# Altium schematic symbol library dungvh03-CERN_Logic.SchLib: 486 symbols (part 14 of 54)
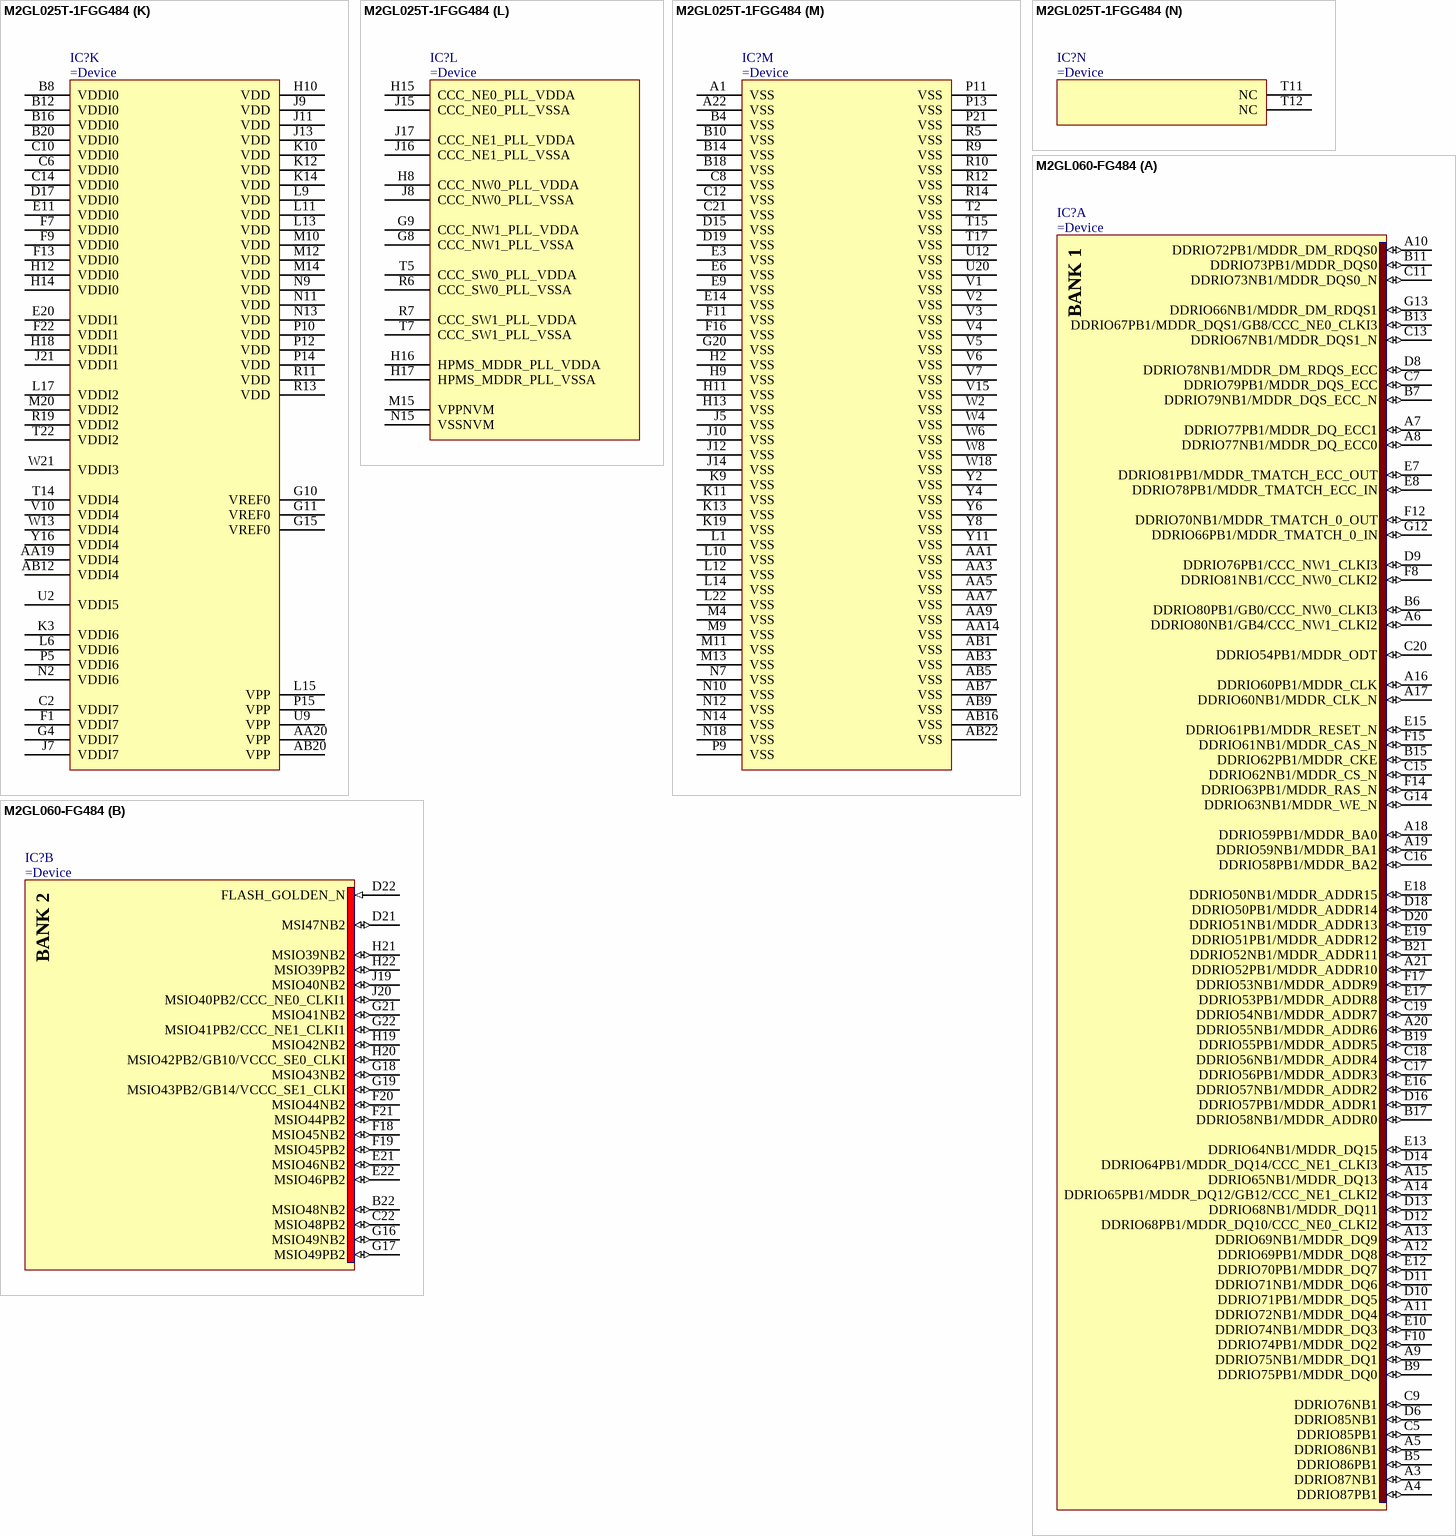
[diagram p274: symbols M2GL025T-1FGG484 to M2GL060-FG484]

## M2GL025T-1FGG484
designator IC?
IGLOO2 FPGA, 27696 Cells, 267 User I/Os,  6 PLLs, 1104K RAM, 1 PCIe, 484-Pin FBGA, Commercial Grade
part A pins: A3 DDRIO79NB0 (io), A4 DDRIO79PB0 (io), A5 DDRIO78NB0 (io), A6 DDRIO65NB0/GB4/CCC_NW1_CLKI2 (io), A7 DDRIO62PB0/MDDR_DQ_ECC1 (io), A8 DDRIO62NB0/MDDR_DQ_ECC0 (io), A9 DDRIO60NB0/MDDR_DQ1 (io), A10 DDRIO57PB0/MDDR_DM_RDQS0 (io), A11 DDRIO57NB0/MDDR_DQ4 (io), A12 DDRIO54PB0/MDDR_DQ8 (io), A13 DDRIO54NB0/MDDR_DQ9 (io), A14 DDRIO50PB0/GB12/CCC_NE1_CLKI2/MDDR_DQ12 (io), A15 DDRIO50NB0/MDDR_DQ13 (io), A16 DDRIO45PB0/MDDR_CLK (io), A17 DDRIO45NB0/MDDR_CLK_N (io), A18 DDRIO44PB0/MDDR_BA0 (io), A19 DDRIO44NB0/MDDR_BA1 (io), A20 DDRIO40NB0/MDDR_ADDR6 (io), A21 DDRIO37PB0/MDDR_ADDR10 (io), B5 DDRIO78PB0 (io), B6 DDRIO65PB0/GB0/CCC_NW0_CLKI3 (io), B7 DDRIO64NB0/MDDR_DQS_ECC_N (io), B9 DDRIO60PB0/MDDR_DQ0 (io), B11 DDRIO58PB0/MDDR_DQS0 (io), B13 DDRIO52PB0/GB8/CCC_NE0_CLKI3/MDDR_DQS1 (io), B15 DDRIO47PB0/MDDR_CKE (io), B17 DDRIO43NB0/MDDR_ADDR0 (io), B19 DDRIO40PB0/MDDR_ADDR5 (io), B21 DDRIO37NB0/MDDR_ADDR11 (io), C5 DDRIO77PB0 (io), C7 DDRIO64PB0/MDDR_DQS_ECC (io), C9 DDRIO61NB0 (io), C11 DDRIO58NB0/MDDR_DQS0_N (io), C13 DDRIO52NB0/MDDR_DQS1_N (io), C15 DDRIO47NB0/MDDR_CS_N (io), C16 DDRIO43PB0/MDDR_BA2 (io), C17 DDRIO41PB0/MDDR_ADDR3 (io), C18 DDRIO41NB0/MDDR_ADDR4 (io), C19 DDRIO39NB0/MDDR_ADDR7 (io), C20 DDRIO39PB0/MDDR_ODT (io), D6 DDRIO77NB0 (io), D8 DDRIO63NB0/MDDR_DM_RDQS_ECC (io), D9 DDRIO61PB0/CCC_NW1_CLKI3 (io), D10 DDRIO56PB0/MDDR_DQ5 (io), D11 DDRIO56NB0/MDDR_DQ6 (io), D12 DDRIO53PB0/CCC_NE0_CLKI2/MDDR_DQ10 (io), D13 DDRIO53NB0/MDDR_DQ11 (io), D14 DDRIO49PB0/CCC_NE1_CLKI3/MDDR_DQ14 (io), D16 DDRIO42PB0/MDDR_ADDR1 (io), D18 DDRIO35PB0/MDDR_ADDR14 (io), D20 DDRIO36NB0/MDDR_ADDR13 (io), E7 DDRIO66PB0/MDDR_TMATCH_ECC_OUT (io), E8 DDRIO63PB0/MDDR_TMATCH_ECC_IN (io), E10 DDRIO59NB0/MDDR_DQ3 (io), E12 DDRIO55PB0/MDDR_DQ7 (io), E13 DDRIO49NB0/MDDR_DQ15 (io), E15 DDRIO46PB0/MDDR_RESET_N (io), E16 DDRIO42NB0/MDDR_ADDR2 (io), E17 DDRIO38PB0/MDDR_ADDR8 (io), E18 DDRIO35NB0/MDDR_ADDR15 (io), E19 DDRIO36PB0/MDDR_ADDR12 (io), F8 DDRIO66NB0/CCC_NW0_CLKI2 (io), F10 DDRIO59PB0/MDDR_DQ2 (io), F12 DDRIO55NB0/MDDR_TMATCH_0_OUT (io), F14 DDRIO48PB0/MDDR_RAS_N (io), F15 DDRIO46NB0/MDDR_CAS_N (io), F17 DDRIO38NB0/MDDR_ADDR9 (io), G12 DDRIO51PB0/MDDR_TMATCH_0_IN (io), G13 DDRIO51NB0/MDDR_DM_RDQS1 (io), G14 DDRIO48NB0/MDDR_WE_N (io)
part B pins: B22 MSIO33NB1 (io), C22 MSIO33PB1 (io), D21 MSI32NB1 (io), D22 FLASH_GOLDEN_N (in), E21 MSIO31NB1 (io), E22 MSIO31PB1 (io), F18 MSIO30NB1 (io), F19 MSIO30PB1 (io), F20 MSIO29NB1 (io), F21 MSIO29PB1 (io), G16 MSIO34NB1 (io), G17 MSIO34PB1 (io), G18 MSIO28NB1 (io), G19 MSIO28PB1/GB14/VCCC_SE1_CLKI (io), G21 MSIO26NB1 (io), G22 MSIO26PB1/CCC_NE1_CLKI1 (io), H19 MSIO27NB1 (io), H20 MSIO27PB1/GB10/VCCC_SE0_CLKI (io), H21 MSIO24NB1 (io), H22 MSIO24PB1 (io), J19 MSIO25NB1 (io), J20 MSIO25PB1/CCC_NE0_CLKI1 (io)
part C pins: J18 MSIO23NB2 (io), J22 MSIO20NB2/GB13/VCCC_SE1_CLKI (io), K15 MSIO21NB2 (io), K16 MSIO22NB2 (io), K17 MSIO22PB2 (io), K18 MSIO23PB2 (io), K20 MSIO19NB2 (io), K21 MSIO19PB2 (io), K22 MSIO20PB2/GB9/VCCC_SE0_CLKI (io), L16 MSIO21PB2 (io), L18 MSIO18NB2 (io), L19 MSIO18PB2 (io), L20 MSIO17NB2 (io), L21 MSIO17PB2 (io), M16 MSIO14PB2 (io), M17 MSIO14NB2 (io), M18 MSIO15PB2 (io), M19 MSIO15NB2 (io), M21 MSIO16PB2 (io), M22 MSIO16NB2 (io), N16 MSIO8PB2 (io), N17 MSIO8NB2 (io), N19 MSIO12PB2/SPI_0_CLK (io), N20 MSIO12NB2/SPI_0_SDI (io), N21 MSIO13PB2/SPI_0_SDO (io), N22 MSIO13NB2/SPI_0_SS0 (io), P16 MSIO7NB2 (io), P17 MSIO6PB2 (io), P18 MSIO6NB2 (io), P22 MSIO11PB2/CCC_NE0_CLKI0 (io), R16 MSIO7PB2 (io), R17 MSIO1PB2 (io), R18 MSIO1NB2 (io), R22 MSIO11NB2/CCC_NE1_CLKI0 (io), T18 MSIO2PB2 (io), T19 MSIO2NB2 (io), T20 MSIO5PB2 (io), T21 MSIO5NB2 (io), U19 MSIO0PB2 (io), U21 MSIO4NB2 (io), U22 MSIO4PB2 (io), V19 MSIO0NB2 (io), V21 MSIO3NB2 (io), V22 MSIO3PB2 (io)
part D pins: AA10 MSIO122PB4 (io), AA11 MSIO124PB4 (io), AA12 MSIO127PB4 (io), AA13 MSIO130PB4/VCCC_SE0_CLKI (io), AA15 MSIO134NB4 (io), AA16 MSIO138PB4 (io), AA17 MSIO138NB4 (io), AA18 MSIO137NB4 (io), AB10 MSIO122NB4 (io), AB11 MSIO124NB4 (io), AB13 MSIO129PB4/CCC_SW1_CLKI3 (io), AB14 MSIO129NB4 (io), AB15 MSIO134PB4/VCCC_SE1_CLKI (io), AB17 MSIO137PB4 (io), AB18 MSIO142PB4 (io), AB19 MSIO142NB4 (io), T13 MSIO131NB4 (io), T16 MSIO143NB4 (io), U10 MSIO123PB4 (io), U11 MSIO123NB4 (io), U13 MSIO131PB4/GB11/VCCC_SE0_CLKI (io), U14 MSIO136PB4 (io), U15 MSIO136NB4 (io), U16 MSIO143PB4 (io), U17 MSIO144NB4 (io), U18 MSIO146NB4 (io), V11 MSIO125PB4/GB3/CCC_SW0_CLKI3 (io), V12 MSIO128NB4 (io), V13 MSIO132PB4 (io), V14 MSIO132NB4 (io), V16 MSIO139NB4 (io), V17 MSIO144PB4 (io), V18 MSIO146PB4 (io), W9 MSIO120PB4 (io), W10 MSIO121PB4/PROBE_A (io), W11 MSIO125NB4/GB7/CCC_SW1_CLKI2 (io), W12 MSIO128PB4 (io), W14 MSIO133NB4 (io), W15 MSIO135NB4 (io), W16 MSIO139PB4 (io), W17 MSIO140NB4 (io), W19 MSIO145NB4 (io), Y9 MSIO120NB4/CCC_SW0_CLKI2 (io), Y10 MSIO121NB4/PROBE_B (io), Y12 MSIO127NB4 (io), Y13 MSIO130NB4 (io), Y14 MSIO133PB4/GB15/VCCC_SE1_CLKI (io), Y15 MSIO135PB4 (io), Y17 MSIO140PB4 (io), Y18 MSIO141PB4 (io), Y19 MSIO141NB4 (io), Y20 MSIO145PB4 (io)
part E pins: K1 MSIOD103PB6/CCC_SW0_CLKI0 (io), K2 MSIOD103NB6 (io), K4 MSIOD100PB6/GB5/CCC_SW1_CLKI1 (io), K5 MSIOD100NB6 (io), K8 MSIOD101PB6/GB1/CCC_SW0_CLKI1 (io), L2 MSIOD104PB6 (io), L3 MSIOD104NB6 (io), L4 MSIOD105PB6 (io), L5 MSIOD105NB6 (io), L7 MSIOD102NB6 (io), L8 MSIOD101NB6 (io), M1 MSIOD110NB6 (io), M2 MSIOD108NB6 (io), M3 MSIOD108PB6 (io), M5 MSIOD106PB6 (io), M6 MSIOD106NB6 (io), M7 MSIOD102PB6/CCC_SW1_CLKI0 (io), M8 MSIOD113NB6 (io), N1 MSIOD110PB6 (io), N3 MSIOD109PB6 (io), N4 MSIOD109NB6 (io), N5 MSIOD107PB6 (io), N6 MSIOD107NB6 (io), N8 MSIOD113PB6 (io), P1 MSIOD112PB6 (io), P2 MSIOD112NB6 (io), P3 MSIOD111NB6 (io), P4 MSIOD111PB6 (io), P6 MSIOD114PB6 (io), P7 MSIOD114NB6 (io), R1 MSIOD115NB6 (io), R2 MSIOD115PB6 (io), R3 MSIOD116PB6 (io), R4 MSIOD116NB6 (io), T3 MSIOD117NB6 (io), T4 MSIOD117PB6 (io)
part F pins: A2 MSIO85NB7 (io), B1 MSIO87NB7 (io), B2 MSIO85PB7 (io), B3 MSIO81NB7 (io), C1 MSIO87PB7 (io), C3 MSIO81PB7 (io), C4 MSIO80PB7 (io), D1 MSIO88PB7 (io), D2 MSIO88NB7 (io), D3 MSIO84PB7 (io), D4 MSIO84NB7 (io), D5 MSIO80NB7 (io), E1 MSIO89PB7 (io), E2 MSIO89NB7 (io), E4 MSIO86PB7 (io), E5 MSIO86NB7 (io), F2 MSIO94NB7 (io), F3 MSIO90PB7 (io), F4 MSIO90NB7 (io), F5 MSIO83PB7 (io), F6 MSIO83NB7 (io), G1 MSIO96NB7 (io), G2 MSIO94PB7 (io), G3 MSIO95NB7 (io), G5 MSIO82PB7 (io), G6 MSIO82NB7 (io), G7 MSIO91NB7 (io), H1 MSIO96PB7/GB6/CCC_NW1_CLKI1 (io), H3 MSIO95PB7 (io), H4 MSIO93PB7 (io), H5 MSIO93NB7 (io), H6 MSIO92PB7 (io), H7 MSIO91PB7 (io), J1 MSIO98PB7/CCC_NW1_CLKI0 (io), J2 MSIO98NB7 (io), J3 MSIO97PB7/GB2/CCC_NW0_CLKI1 (io), J4 MSIO97NB7 (io), J6 MSIO92NB7 (io), K6 MSIO99PB7/CCC_NW0_CLKI0 (io), K7 MSIO99NB7 (io)
part G pins: AA2 SERDES_0_TXD0_N (in), AA4 SERDES_0_TXD1_N (in), AA6 SERDES_0_TXD2_N (in), AA8 SERDES_0_TXD3_N (in), AB2 SERDES_0_TXD0_P (in), AB4 SERDES_0_TXD1_P (in), AB6 SERDES_0_TXD2_P (in), AB8 SERDES_0_TXD3_P (in), P8 SERDES_0_VDD (power), R8 SERDES_0_L01_VDDAIO (power), T1 MSIOD118NB5/SERDES_0_REFCLK0_N (io), T6 SERDES_0_PLL_VSSA (power), T8 SERDES_0_PLL_VDDA (power), T9 SERDES_0_VDD (power), T10 SERDES_0_L23_VDDAIO (power), U1 MSIOD118PB5/SERDES_0_REFCLK0_P (io), U3 MSIOD119PB5/SERDES_0_REFCLK1_P (io), U4 MSIOD119NB5/SERDES_0_REFCLK1_N (io), U5 SERDES_0_L01_REXT (power), U6 SERDES_0_L01_REFRET (power), U7 SERDES_0_L01_VDDAPLL (power), U8 SERDES_0_L23_VDDAPLL (power), V8 SERDES_0_L23_REXT (power), V9 SERDES_0_L23_REFRET (power), W1 SERDES_0_RXD0_P (in), W3 SERDES_0_RXD1_P (in), W5 SERDES_0_RXD2_P (in), W7 SERDES_0_RXD3_P (in), Y1 SERDES_0_RXD0_N (in), Y3 SERDES_0_RXD1_N (in), Y5 SERDES_0_RXD2_N (in), Y7 SERDES_0_RXD3_N (in)
part H pins: AA21 XTLOSC_MAIN_EXTAL (in), AB21 XTLOSC_MAIN_XTAL (in), D7 MDDR_IMP_CALIB (in), R15 DEVRST_N (in)
part I pins: AA22 JTAGSEL (in), V20 JTAG_TMS (in), W20 JTAG_TCK (in), W22 JTAG_TDI (in), Y21 JTAG_TDO (out), Y22 JTAG_TRSTB (in)
part J pins: P19 SC_SPI_SDO (out), P20 SC_SPI_SS (out), R20 SC_SPI_CLK (out), R21 SC_SPI_SDI (in)
part K pins: AA19 VDDI4 (power), AA20 VPP (power), AB12 VDDI4 (power), AB20 VPP (power), B8 VDDI0 (power), B12 VDDI0 (power), B16 VDDI0 (power), B20 VDDI0 (power), C2 VDDI7 (power), C6 VDDI0 (power), C10 VDDI0 (power), C14 VDDI0 (power), D17 VDDI0 (power), E11 VDDI0 (power), E20 VDDI1 (power), F1 VDDI7 (power), F7 VDDI0 (power), F9 VDDI0 (power), F13 VDDI0 (power), F22 VDDI1 (power), G4 VDDI7 (power), G10 VREF0 (power), G11 VREF0 (power), G15 VREF0 (power), H10 VDD (power), H12 VDDI0 (power), H14 VDDI0 (power), H18 VDDI1 (power), J7 VDDI7 (power), J9 VDD (power), J11 VDD (power), J13 VDD (power), J21 VDDI1 (power), K3 VDDI6 (power), K10 VDD (power), K12 VDD (power), K14 VDD (power), L6 VDDI6 (power), L9 VDD (power), L11 VDD (power), L13 VDD (power), L15 VPP (power), L17 VDDI2 (power), M10 VDD (power), M12 VDD (power), M14 VDD (power), M20 VDDI2 (power), N2 VDDI6 (power), N9 VDD (power), N11 VDD (power), N13 VDD (power), P5 VDDI6 (power), P10 VDD (power), P12 VDD (power), P14 VDD (power), P15 VPP (power), R11 VDD (power), R13 VDD (power), R19 VDDI2 (power), T14 VDDI4 (power), T22 VDDI2 (power), U2 VDDI5 (power), U9 VPP (power), V10 VDDI4 (power), W13 VDDI4 (power), W21 VDDI3 (power), Y16 VDDI4 (power)
part L pins: G8 CCC_NW1_PLL_VSSA (power), G9 CCC_NW1_PLL_VDDA (power), H8 CCC_NW0_PLL_VDDA (power), H15 CCC_NE0_PLL_VDDA (power), H16 HPMS_MDDR_PLL_VDDA (power), H17 HPMS_MDDR_PLL_VSSA (power), J8 CCC_NW0_PLL_VSSA (power), J15 CCC_NE0_PLL_VSSA (power), J16 CCC_NE1_PLL_VSSA (power), J17 CCC_NE1_PLL_VDDA (power), M15 VPPNVM (power), N15 VSSNVM (power), R6 CCC_SW0_PLL_VSSA (power), R7 CCC_SW1_PLL_VDDA (power), T5 CCC_SW0_PLL_VDDA (power), T7 CCC_SW1_PLL_VSSA (power)
part M pins: A1 VSS (power), A22 VSS (power), AA1 VSS (power), AA3 VSS (power), AA5 VSS (power), AA7 VSS (power), AA9 VSS (power), AA14 VSS (power), AB1 VSS (power), AB3 VSS (power), AB5 VSS (power), AB7 VSS (power), AB9 VSS (power), AB16 VSS (power), AB22 VSS (power), B4 VSS (power), B10 VSS (power), B14 VSS (power), B18 VSS (power), C8 VSS (power), C12 VSS (power), C21 VSS (power), D15 VSS (power), D19 VSS (power), E3 VSS (power), E6 VSS (power), E9 VSS (power), E14 VSS (power), F11 VSS (power), F16 VSS (power), G20 VSS (power), H2 VSS (power), H9 VSS (power), H11 VSS (power), H13 VSS (power), J5 VSS (power), J10 VSS (power), J12 VSS (power), J14 VSS (power), K9 VSS (power), K11 VSS (power), K13 VSS (power), K19 VSS (power), L1 VSS (power), L10 VSS (power), L12 VSS (power), L14 VSS (power), L22 VSS (power), M4 VSS (power), M9 VSS (power), M11 VSS (power), M13 VSS (power), N7 VSS (power), N10 VSS (power), N12 VSS (power), N14 VSS (power), N18 VSS (power), P9 VSS (power), P11 VSS (power), P13 VSS (power), P21 VSS (power), R5 VSS (power), R9 VSS (power), R10 VSS (power), R12 VSS (power), R14 VSS (power), T2 VSS (power), T15 VSS (power), T17 VSS (power), U12 VSS (power), U20 VSS (power), V1 VSS (power), V2 VSS (power), V3 VSS (power), V4 VSS (power), V5 VSS (power), V6 VSS (power), V7 VSS (power), V15 VSS (power), W2 VSS (power), W4 VSS (power), W6 VSS (power), W8 VSS (power), W18 VSS (power), Y2 VSS (power), Y4 VSS (power), Y6 VSS (power), Y8 VSS (power), Y11 VSS (power)
part N pins: T11 NC, T12 NC
part A text: BANK 0
part B text: BANK 1
part C text: BANK 2
part D text: BANK 4
part E text: BANK 6
part F text: BANK 7

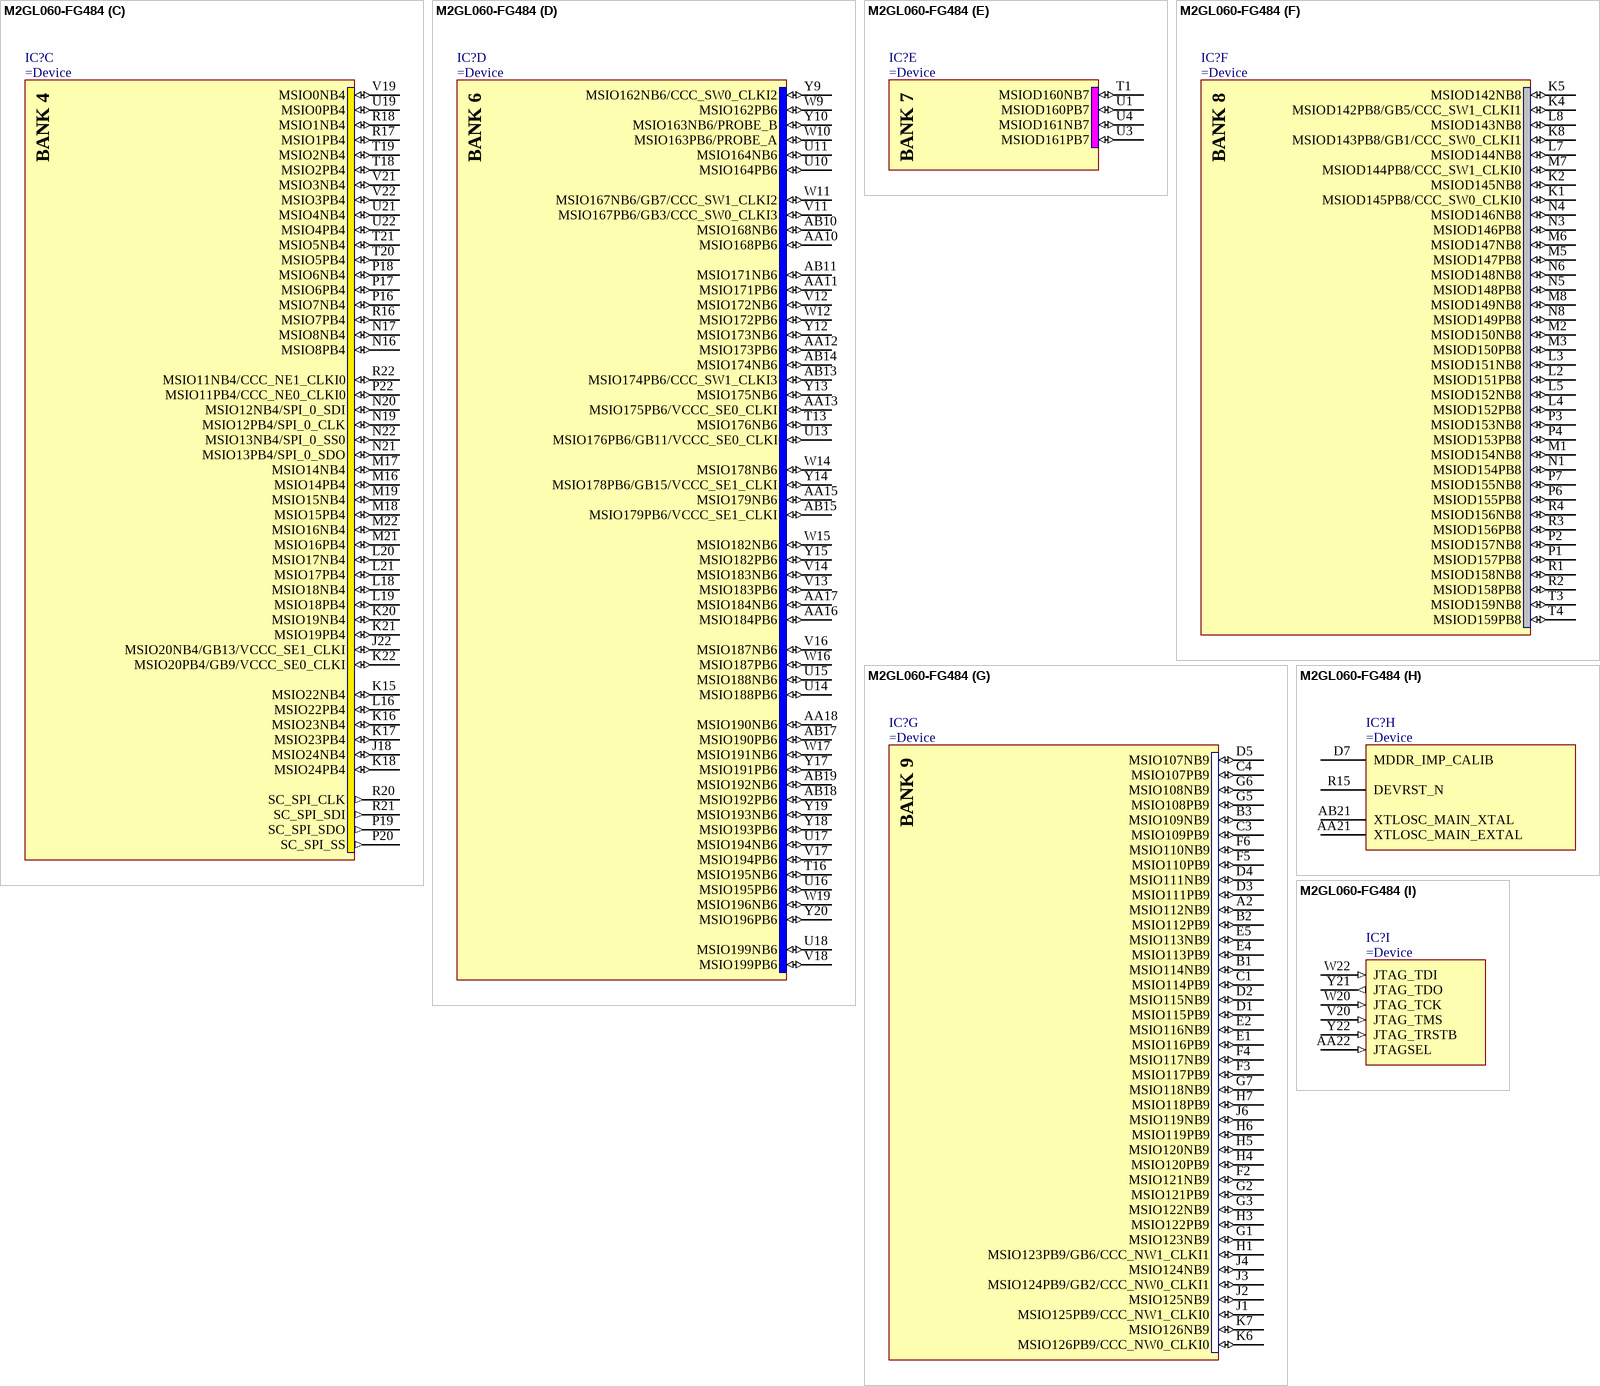
[diagram p82: symbol M2GL060-FG484]

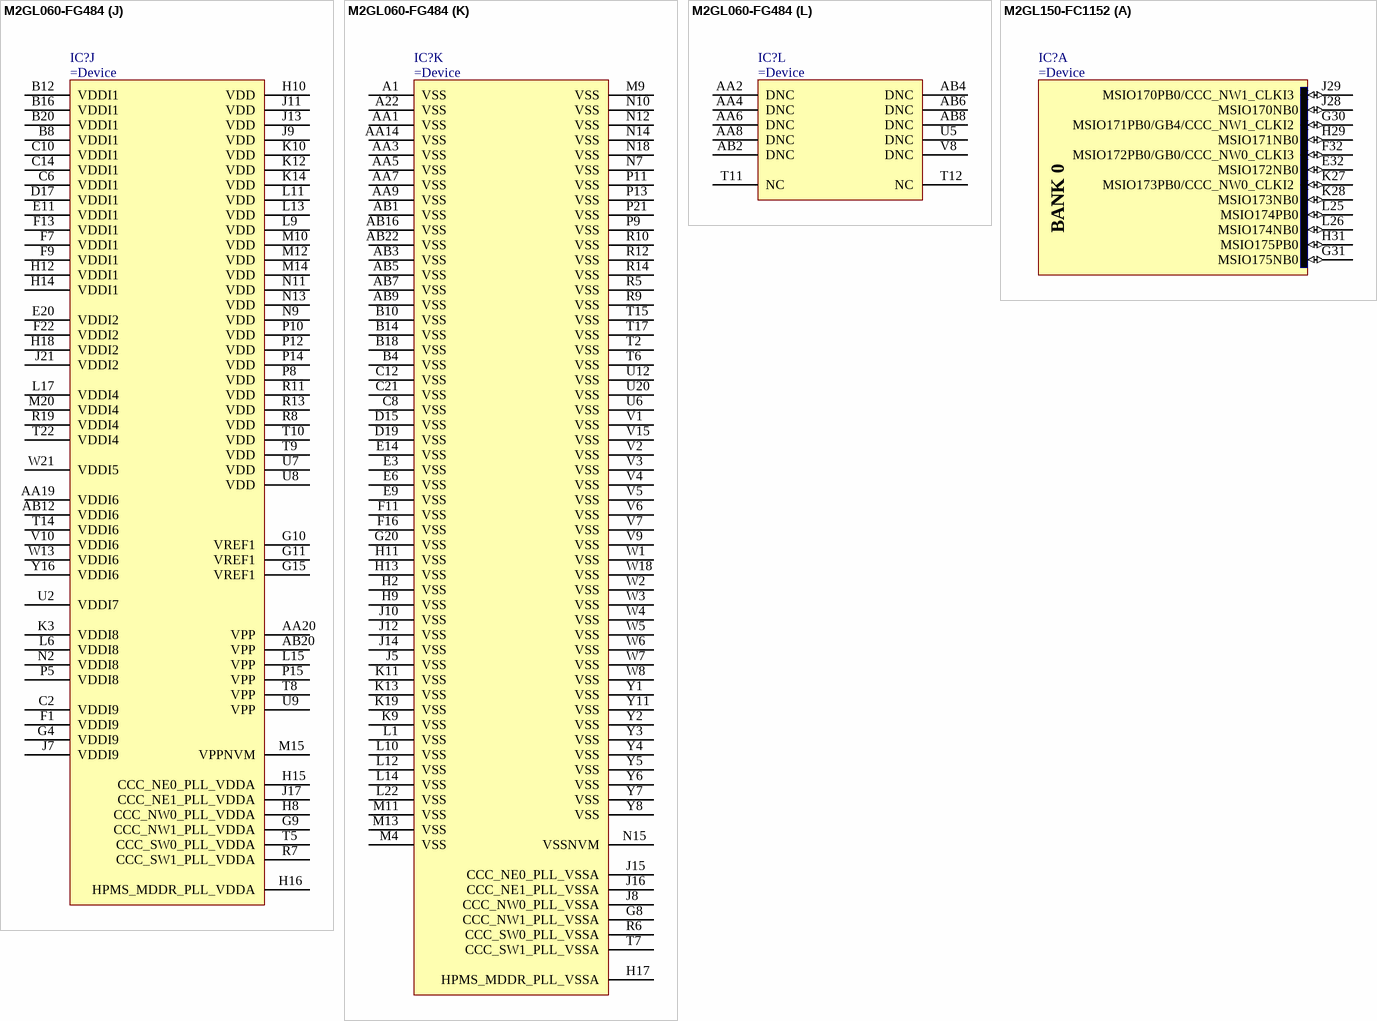
[diagram p83: symbols M2GL060-FG484 to M2GL150-FC1152]

## M2GL060-FG484
designator IC?
IGLOO2 FPGA, 27696 Cells, 267 User I/Os,  6 PLLs, 1IGLOO2 FPGA, 56520 Cells, 267 User I/Os,  6 PLLs, 1826K RAM, 2 PCIe, 484-Pin FBGA, Commercial Grade
part A pins:  A3 DDRIO87NB1 (io),  A4 DDRIO87PB1 (io),  A5 DDRIO86NB1 (io),  A6 DDRIO80NB1/GB4/CCC_NW1_CLKI2 (io),  A7 DDRIO77PB1/MDDR_DQ_ECC1 (io),  A8 DDRIO77NB1/MDDR_DQ_ECC0 (io),  A9 DDRIO75NB1/MDDR_DQ1 (io),  A10 DDRIO72PB1/MDDR_DM_RDQS0 (io),  A11 DDRIO72NB1/MDDR_DQ4 (io),  A12 DDRIO69PB1/MDDR_DQ8 (io),  A13 DDRIO69NB1/MDDR_DQ9 (io),  A14 DDRIO65PB1/MDDR_DQ12/GB12/CCC_NE1_CLKI2 (io),  A15 DDRIO65NB1/MDDR_DQ13 (io),  A16 DDRIO60PB1/MDDR_CLK (io),  A17 DDRIO60NB1/MDDR_CLK_N (io),  A18 DDRIO59PB1/MDDR_BA0 (io),  A19 DDRIO59NB1/MDDR_BA1 (io),  A20 DDRIO55NB1/MDDR_ADDR6 (io),  A21 DDRIO52PB1/MDDR_ADDR10 (io),  B5 DDRIO86PB1 (io),  B6 DDRIO80PB1/GB0/CCC_NW0_CLKI3 (io),  B7 DDRIO79NB1/MDDR_DQS_ECC_N (io),  B9 DDRIO75PB1/MDDR_DQ0 (io),  B11 DDRIO73PB1/MDDR_DQS0 (io),  B13 DDRIO67PB1/MDDR_DQS1/GB8/CCC_NE0_CLKI3 (io),  B15 DDRIO62PB1/MDDR_CKE (io),  B17 DDRIO58NB1/MDDR_ADDR0 (io),  B19 DDRIO55PB1/MDDR_ADDR5 (io),  B21 DDRIO52NB1/MDDR_ADDR11 (io),  C5 DDRIO85PB1 (io),  C7 DDRIO79PB1/MDDR_DQS_ECC (io),  C9 DDRIO76NB1 (io),  C11 DDRIO73NB1/MDDR_DQS0_N (io),  C13 DDRIO67NB1/MDDR_DQS1_N (io),  C15 DDRIO62NB1/MDDR_CS_N (io),  C16 DDRIO58PB1/MDDR_BA2 (io),  C17 DDRIO56PB1/MDDR_ADDR3 (io),  C18 DDRIO56NB1/MDDR_ADDR4 (io),  C19 DDRIO54NB1/MDDR_ADDR7 (io),  C20 DDRIO54PB1/MDDR_ODT (io),  D6 DDRIO85NB1 (io),  D8 DDRIO78NB1/MDDR_DM_RDQS_ECC (io),  D9 DDRIO76PB1/CCC_NW1_CLKI3 (io),  D10 DDRIO71PB1/MDDR_DQ5 (io),  D11 DDRIO71NB1/MDDR_DQ6 (io),  D12 DDRIO68PB1/MDDR_DQ10/CCC_NE0_CLKI2 (io),  D13 DDRIO68NB1/MDDR_DQ11 (io),  D14 DDRIO64PB1/MDDR_DQ14/CCC_NE1_CLKI3 (io),  D16 DDRIO57PB1/MDDR_ADDR1 (io),  D18 DDRIO50PB1/MDDR_ADDR14 (io),  D20 DDRIO51NB1/MDDR_ADDR13 (io),  E7 DDRIO81PB1/MDDR_TMATCH_ECC_OUT (io),  E8 DDRIO78PB1/MDDR_TMATCH_ECC_IN (io),  E10 DDRIO74NB1/MDDR_DQ3 (io),  E12 DDRIO70PB1/MDDR_DQ7 (io),  E13 DDRIO64NB1/MDDR_DQ15 (io),  E15 DDRIO61PB1/MDDR_RESET_N (io),  E16 DDRIO57NB1/MDDR_ADDR2 (io),  E17 DDRIO53PB1/MDDR_ADDR8 (io),  E18 DDRIO50NB1/MDDR_ADDR15 (io),  E19 DDRIO51PB1/MDDR_ADDR12 (io),  F8 DDRIO81NB1/CCC_NW0_CLKI2 (io),  F10 DDRIO74PB1/MDDR_DQ2 (io),  F12 DDRIO70NB1/MDDR_TMATCH_0_OUT (io),  F14 DDRIO63PB1/MDDR_RAS_N (io),  F15 DDRIO61NB1/MDDR_CAS_N (io),  F17 DDRIO53NB1/MDDR_ADDR9 (io),  G12 DDRIO66PB1/MDDR_TMATCH_0_IN (io),  G13 DDRIO66NB1/MDDR_DM_RDQS1 (io),  G14 DDRIO63NB1/MDDR_WE_N (io)
part B pins:  B22 MSIO48NB2 (io),  C22 MSIO48PB2 (io),  D21 MSI47NB2 (io),  D22 FLASH_GOLDEN_N (in),  E21 MSIO46NB2 (io),  E22 MSIO46PB2 (io),  F18 MSIO45NB2 (io),  F19 MSIO45PB2 (io),  F20 MSIO44NB2 (io),  F21 MSIO44PB2 (io),  G16 MSIO49NB2 (io),  G17 MSIO49PB2 (io),  G18 MSIO43NB2 (io),  G19 MSIO43PB2/GB14/VCCC_SE1_CLKI (io),  G21 MSIO41NB2 (io),  G22 MSIO41PB2/CCC_NE1_CLKI1 (io),  H19 MSIO42NB2 (io),  H20 MSIO42PB2/GB10/VCCC_SE0_CLKI (io),  H21 MSIO39NB2 (io),  H22 MSIO39PB2 (io),  J19 MSIO40NB2 (io),  J20 MSIO40PB2/CCC_NE0_CLKI1 (io)
part C pins:  J18 MSIO24NB4 (io),  J22 MSIO20NB4/GB13/VCCC_SE1_CLKI (io),  K15 MSIO22NB4 (io),  K16 MSIO23NB4 (io),  K17 MSIO23PB4 (io),  K18 MSIO24PB4 (io),  K20 MSIO19NB4 (io),  K21 MSIO19PB4 (io),  K22 MSIO20PB4/GB9/VCCC_SE0_CLKI (io),  L16 MSIO22PB4 (io),  L18 MSIO18NB4 (io),  L19 MSIO18PB4 (io),  L20 MSIO17NB4 (io),  L21 MSIO17PB4 (io),  M16 MSIO14PB4 (io),  M17 MSIO14NB4 (io),  M18 MSIO15PB4 (io),  M19 MSIO15NB4 (io),  M21 MSIO16PB4 (io),  M22 MSIO16NB4 (io),  N16 MSIO8PB4 (io),  N17 MSIO8NB4 (io),  N19 MSIO12PB4/SPI_0_CLK (io),  N20 MSIO12NB4/SPI_0_SDI (io),  N21 MSIO13PB4/SPI_0_SDO (io),  N22 MSIO13NB4/SPI_0_SS0 (io),  P16 MSIO7NB4 (io),  P17 MSIO6PB4 (io),  P18 MSIO6NB4 (io),  P19 SC_SPI_SDO (out),  P20 SC_SPI_SS (out),  P22 MSIO11PB4/CCC_NE0_CLKI0 (io),  R16 MSIO7PB4 (io),  R17 MSIO1PB4 (io),  R18 MSIO1NB4 (io),  R20 SC_SPI_CLK (out),  R21 SC_SPI_SDI (out),  R22 MSIO11NB4/CCC_NE1_CLKI0 (io),  T18 MSIO2PB4 (io),  T19 MSIO2NB4 (io),  T20 MSIO5PB4 (io),  T21 MSIO5NB4 (io),  U19 MSIO0PB4 (io),  U21 MSIO4NB4 (io),  U22 MSIO4PB4 (io),  V19 MSIO0NB4 (io),  V21 MSIO3NB4 (io),  V22 MSIO3PB4 (io)
part D pins:  AA10 MSIO168PB6 (io),  AA11 MSIO171PB6 (io),  AA12 MSIO173PB6 (io),  AA13 MSIO175PB6/VCCC_SE0_CLKI (io),  AA15 MSIO179NB6 (io),  AA16 MSIO184PB6 (io),  AA17 MSIO184NB6 (io),  AA18 MSIO190NB6 (io),  AB10 MSIO168NB6 (io),  AB11 MSIO171NB6 (io),  AB13 MSIO174PB6/CCC_SW1_CLKI3 (io),  AB14 MSIO174NB6 (io),  AB15 MSIO179PB6/VCCC_SE1_CLKI (io),  AB17 MSIO190PB6 (io),  AB18 MSIO192PB6 (io),  AB19 MSIO192NB6 (io),  T13 MSIO176NB6 (io),  T16 MSIO195NB6 (io),  U10 MSIO164PB6 (io),  U11 MSIO164NB6 (io),  U13 MSIO176PB6/GB11/VCCC_SE0_CLKI (io),  U14 MSIO188PB6 (io),  U15 MSIO188NB6 (io),  U16 MSIO195PB6 (io),  U17 MSIO194NB6 (io),  U18 MSIO199NB6 (io),  V11 MSIO167PB6/GB3/CCC_SW0_CLKI3 (io),  V12 MSIO172NB6 (io),  V13 MSIO183PB6 (io),  V14 MSIO183NB6 (io),  V16 MSIO187NB6 (io),  V17 MSIO194PB6 (io),  V18 MSIO199PB6 (io),  W9 MSIO162PB6 (io),  W10 MSIO163PB6/PROBE_A (io),  W11 MSIO167NB6/GB7/CCC_SW1_CLKI2 (io),  W12 MSIO172PB6 (io),  W14 MSIO178NB6 (io),  W15 MSIO182NB6 (io),  W16 MSIO187PB6 (io),  W17 MSIO191NB6 (io),  W19 MSIO196NB6 (io),  Y9 MSIO162NB6/CCC_SW0_CLKI2 (io),  Y10 MSIO163NB6/PROBE_B (io),  Y12 MSIO173NB6 (io),  Y13 MSIO175NB6 (io),  Y14 MSIO178PB6/GB15/VCCC_SE1_CLKI (io),  Y15 MSIO182PB6 (io),  Y17 MSIO191PB6 (io),  Y18 MSIO193PB6 (io),  Y19 MSIO193NB6 (io),  Y20 MSIO196PB6 (io)
part E pins:  T1 MSIOD160NB7 (io),  U1 MSIOD160PB7 (io),  U3 MSIOD161PB7 (io),  U4 MSIOD161NB7 (io)
part F pins:  K1 MSIOD145PB8/CCC_SW0_CLKI0 (io),  K2 MSIOD145NB8 (io),  K4 MSIOD142PB8/GB5/CCC_SW1_CLKI1 (io),  K5 MSIOD142NB8 (io),  K8 MSIOD143PB8/GB1/CCC_SW0_CLKI1 (io),  L2 MSIOD151PB8 (io),  L3 MSIOD151NB8 (io),  L4 MSIOD152PB8 (io),  L5 MSIOD152NB8 (io),  L7 MSIOD144NB8 (io),  L8 MSIOD143NB8 (io),  M1 MSIOD154NB8 (io),  M2 MSIOD150NB8 (io),  M3 MSIOD150PB8 (io),  M5 MSIOD147PB8 (io),  M6 MSIOD147NB8 (io),  M7 MSIOD144PB8/CCC_SW1_CLKI0 (io),  M8 MSIOD149NB8 (io),  N1 MSIOD154PB8 (io),  N3 MSIOD146PB8 (io),  N4 MSIOD146NB8 (io),  N5 MSIOD148PB8 (io),  N6 MSIOD148NB8 (io),  N8 MSIOD149PB8 (io),  P1 MSIOD157PB8 (io),  P2 MSIOD157NB8 (io),  P3 MSIOD153NB8 (io),  P4 MSIOD153PB8 (io),  P6 MSIOD155PB8 (io),  P7 MSIOD155NB8 (io),  R1 MSIOD158NB8 (io),  R2 MSIOD158PB8 (io),  R3 MSIOD156PB8 (io),  R4 MSIOD156NB8 (io),  T3 MSIOD159NB8 (io),  T4 MSIOD159PB8 (io)
part G pins:  A2 MSIO112NB9 (io),  B1 MSIO114NB9 (io),  B2 MSIO112PB9 (io),  B3 MSIO109NB9 (io),  C1 MSIO114PB9 (io),  C3 MSIO109PB9 (io),  C4 MSIO107PB9 (io),  D1 MSIO115PB9 (io),  D2 MSIO115NB9 (io),  D3 MSIO111PB9 (io),  D4 MSIO111NB9 (io),  D5 MSIO107NB9 (io),  E1 MSIO116PB9 (io),  E2 MSIO116NB9 (io),  E4 MSIO113PB9 (io),  E5 MSIO113NB9 (io),  F2 MSIO121NB9 (io),  F3 MSIO117PB9 (io),  F4 MSIO117NB9 (io),  F5 MSIO110PB9 (io),  F6 MSIO110NB9 (io),  G1 MSIO123NB9 (io),  G2 MSIO121PB9 (io),  G3 MSIO122NB9 (io),  G5 MSIO108PB9 (io),  G6 MSIO108NB9 (io),  G7 MSIO118NB9 (io),  H1 MSIO123PB9/GB6/CCC_NW1_CLKI1 (io),  H3 MSIO122PB9 (io),  H4 MSIO120PB9 (io),  H5 MSIO120NB9 (io),  H6 MSIO119PB9 (io),  H7 MSIO118PB9 (io),  J1 MSIO125PB9/CCC_NW1_CLKI0 (io),  J2 MSIO125NB9 (io),  J3 MSIO124PB9/GB2/CCC_NW0_CLKI1 (io),  J4 MSIO124NB9 (io),  J6 MSIO119NB9 (io),  K6 MSIO126PB9/CCC_NW0_CLKI0 (io),  K7 MSIO126NB9 (io)
part H pins:  AA21 XTLOSC_MAIN_EXTAL (power),  AB21 XTLOSC_MAIN_XTAL (power),  D7 MDDR_IMP_CALIB (power),  R15 DEVRST_N (power)
part I pins: AA22 JTAGSEL (in), V20 JTAG_TMS (in), W20 JTAG_TCK (in), W22 JTAG_TDI (in), Y21 JTAG_TDO (out), Y22 JTAG_TRSTB (in)
part J pins:  AA19 VDDI6 (power),  AA20 VPP (power),  AB12 VDDI6 (power),  AB20 VPP (power),  B8 VDDI1 (power),  B12 VDDI1 (power),  B16 VDDI1 (power),  B20 VDDI1 (power),  C2 VDDI9 (power),  C6 VDDI1 (power),  C10 VDDI1 (power),  C14 VDDI1 (power),  D17 VDDI1 (power),  E11 VDDI1 (power),  E20 VDDI2 (power),  F1 VDDI9 (power),  F7 VDDI1 (power),  F9 VDDI1 (power),  F13 VDDI1 (power),  F22 VDDI2 (power),  G4 VDDI9 (power),  G9 CCC_NW1_PLL_VDDA (power),  G10 VREF1 (power),  G11 VREF1 (power),  G15 VREF1 (power),  H8 CCC_NW0_PLL_VDDA (power),  H10 VDD (power),  H12 VDDI1 (power),  H14 VDDI1 (power),  H15 CCC_NE0_PLL_VDDA (power),  H18 VDDI2 (power),  J7 VDDI9 (power),  J9 VDD (power),  J11 VDD (power),  J13 VDD (power),  J17 CCC_NE1_PLL_VDDA (power),  J21 VDDI2 (power),  K3 VDDI8 (power),  K10 VDD (power),  K12 VDD (power),  K14 VDD (power),  L6 VDDI8 (power),  L9 VDD (power),  L11 VDD (power),  L13 VDD (power),  L15 VPP (power),  L17 VDDI4 (power),  M10 VDD (power),  M12 VDD (power),  M14 VDD (power),  M20 VDDI4 (power),  N2 VDDI8 (power),  N9 VDD (power),  N11 VDD (power),  N13 VDD (power),  P5 VDDI8 (power),  P8 VDD (power),  P10 VDD (power),  P12 VDD (power),  P14 VDD (power),  P15 VPP (power),  R7 CCC_SW1_PLL_VDDA (power),  R8 VDD (power),  R11 VDD (power),  R13 VDD (power),  R19 VDDI4 (power),  T5 CCC_SW0_PLL_VDDA (power),  T8 VPP (power),  T9 VDD (power),  T10 VDD (power),  T14 VDDI6 (power),  T22 VDDI4 (power),  U7 VDD (power),  U8 VDD (power),  U9 VPP (power),  V10 VDDI6 (power),  W13 VDDI6 (power),  W21 VDDI5 (power),  Y16 VDDI6 (power), H16 HPMS_MDDR_PLL_VDDA (power), M15 VPPNVM (power), U2 VDDI7 (power)
part K pins:  A1 VSS (power),  A22 VSS (power),  AA1 VSS (power),  AA3 VSS (power),  AA5 VSS (power),  AA7 VSS (power),  AA9 VSS (power),  AA14 VSS (power),  AB1 VSS (power),  AB3 VSS (power),  AB5 VSS (power),  AB7 VSS (power),  AB9 VSS (power),  AB16 VSS (power),  AB22 VSS (power),  B4 VSS (power),  B10 VSS (power),  B14 VSS (power),  B18 VSS (power),  C8 VSS (power),  C12 VSS (power),  C21 VSS (power),  D15 VSS (power),  D19 VSS (power),  E3 VSS (power),  E6 VSS (power),  E9 VSS (power),  E14 VSS (power),  F11 VSS (power),  F16 VSS (power),  G8 CCC_NW1_PLL_VSSA (power),  G20 VSS (power),  H2 VSS (power),  H9 VSS (power),  H11 VSS (power),  H13 VSS (power),  H17 HPMS_MDDR_PLL_VSSA (power),  J5 VSS (power),  J8 CCC_NW0_PLL_VSSA (power),  J10 VSS (power),  J12 VSS (power),  J14 VSS (power),  J15 CCC_NE0_PLL_VSSA (power),  J16 CCC_NE1_PLL_VSSA (power),  K9 VSS (power),  K11 VSS (power),  K13 VSS (power),  K19 VSS (power),  L1 VSS (power),  L10 VSS (power),  L12 VSS (power),  L14 VSS (power),  L22 VSS (power),  M4 VSS (power),  M9 VSS (power),  M11 VSS (power),  M13 VSS (power),  N7 VSS (power),  N10 VSS (power),  N12 VSS (power),  N14 VSS (power),  N18 VSS (power),  P9 VSS (power),  P11 VSS (power),  P13 VSS (power),  P21 VSS (power),  R5 VSS (power),  R6 CCC_SW0_PLL_VSSA (power),  R9 VSS (power),  R10 VSS (power),  R12 VSS (power),  R14 VSS (power),  T2 VSS (power),  T6 VSS (power),  T7 CCC_SW1_PLL_VSSA (power),  T15 VSS (power),  T17 VSS (power),  U6 VSS (power),  U12 VSS (power),  U20 VSS (power),  V1 VSS (power),  V2 VSS (power),  V3 VSS (power),  V4 VSS (power),  V5 VSS (power),  V6 VSS (power),  V7 VSS (power),  V9 VSS (power),  V15 VSS (power),  W1 VSS (power),  W2 VSS (power),  W3 VSS (power),  W4 VSS (power),  W5 VSS (power),  W6 VSS (power),  W7 VSS (power),  W8 VSS (power),  W18 VSS (power),  Y1 VSS (power),  Y2 VSS (power),  Y3 VSS (power),  Y4 VSS (power),  Y5 VSS (power),  Y6 VSS (power),  Y7 VSS (power),  Y8 VSS (power),  Y11 VSS (power), N15 VSSNVM (power)
part L pins:  AA2 DNC,  AA4 DNC (power),  AA6 DNC,  AA8 DNC (power),  AB2 DNC,  AB4 DNC (power),  AB6 DNC,  AB8 DNC,  T11 NC,  T12 NC,  U5 DNC,  V8 DNC
part A text: BANK 1
part B text: BANK 2
part C text: BANK 4
part D text: BANK 6
part E text: BANK 7
part F text: BANK 8
part G text: BANK 9

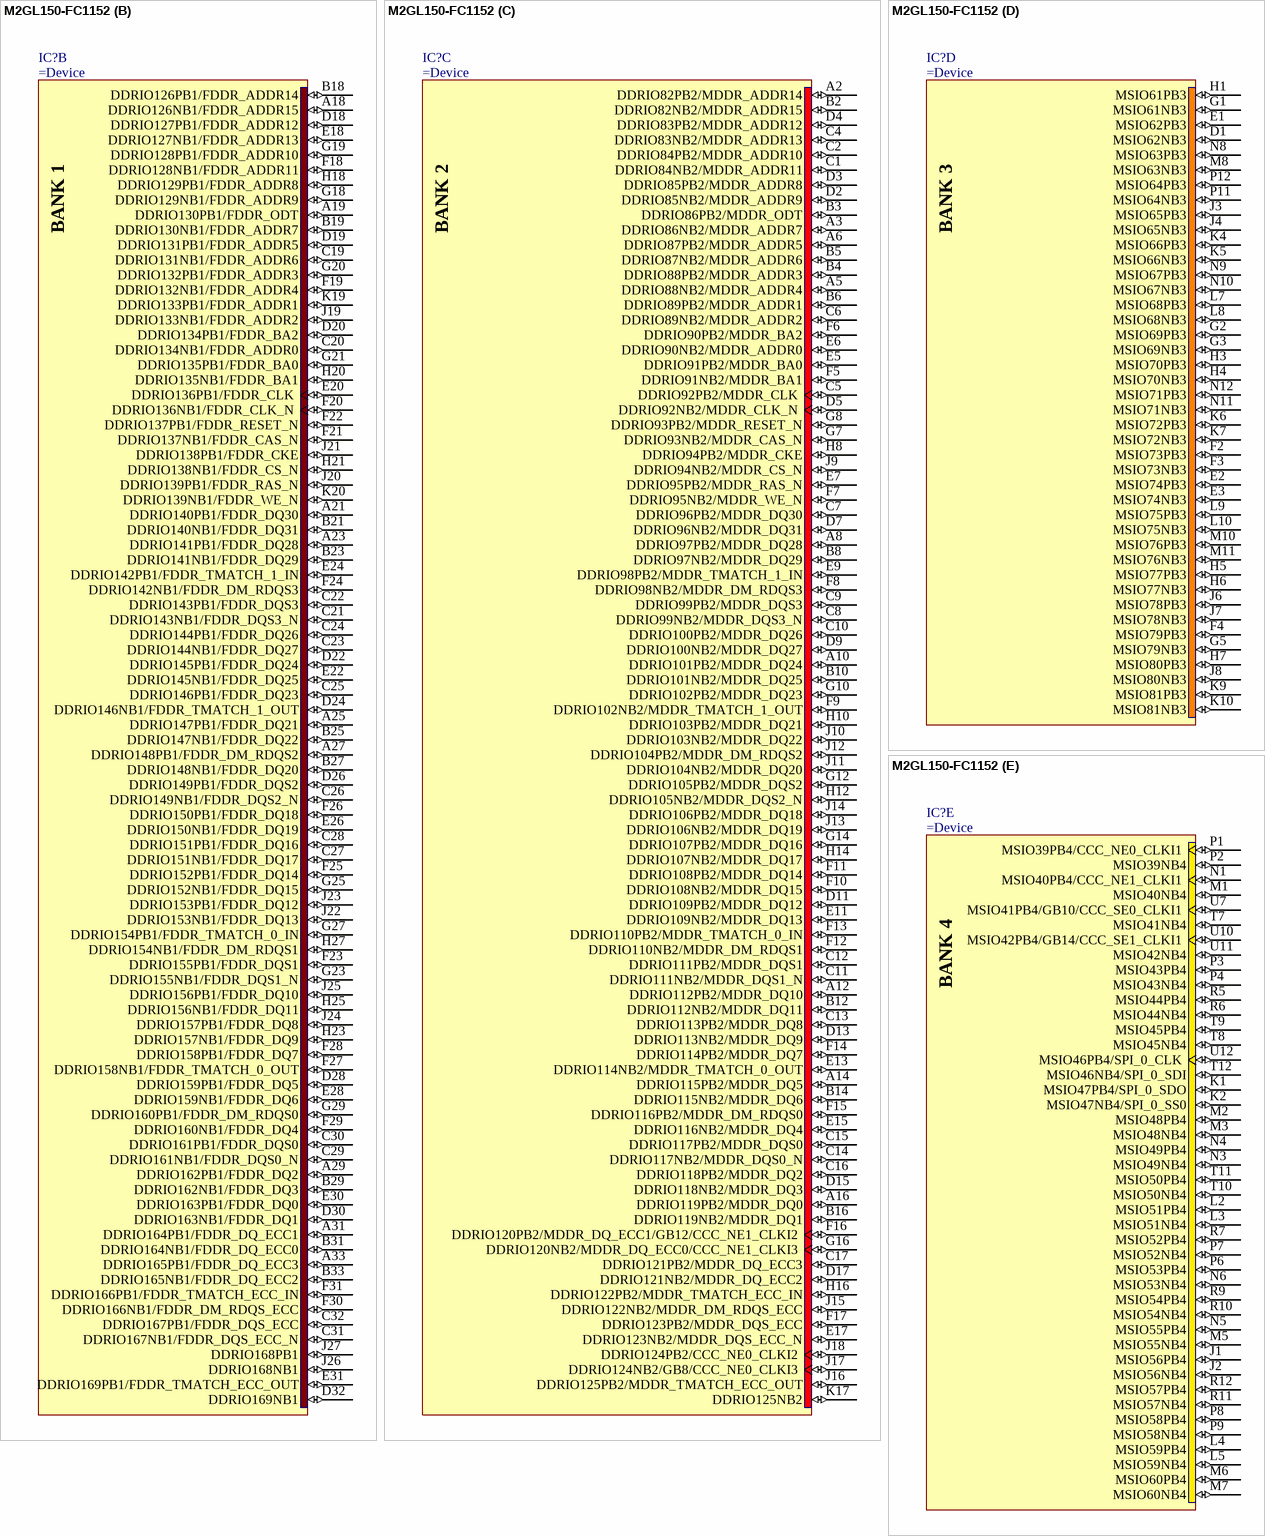
[diagram p84: symbol M2GL150-FC1152]

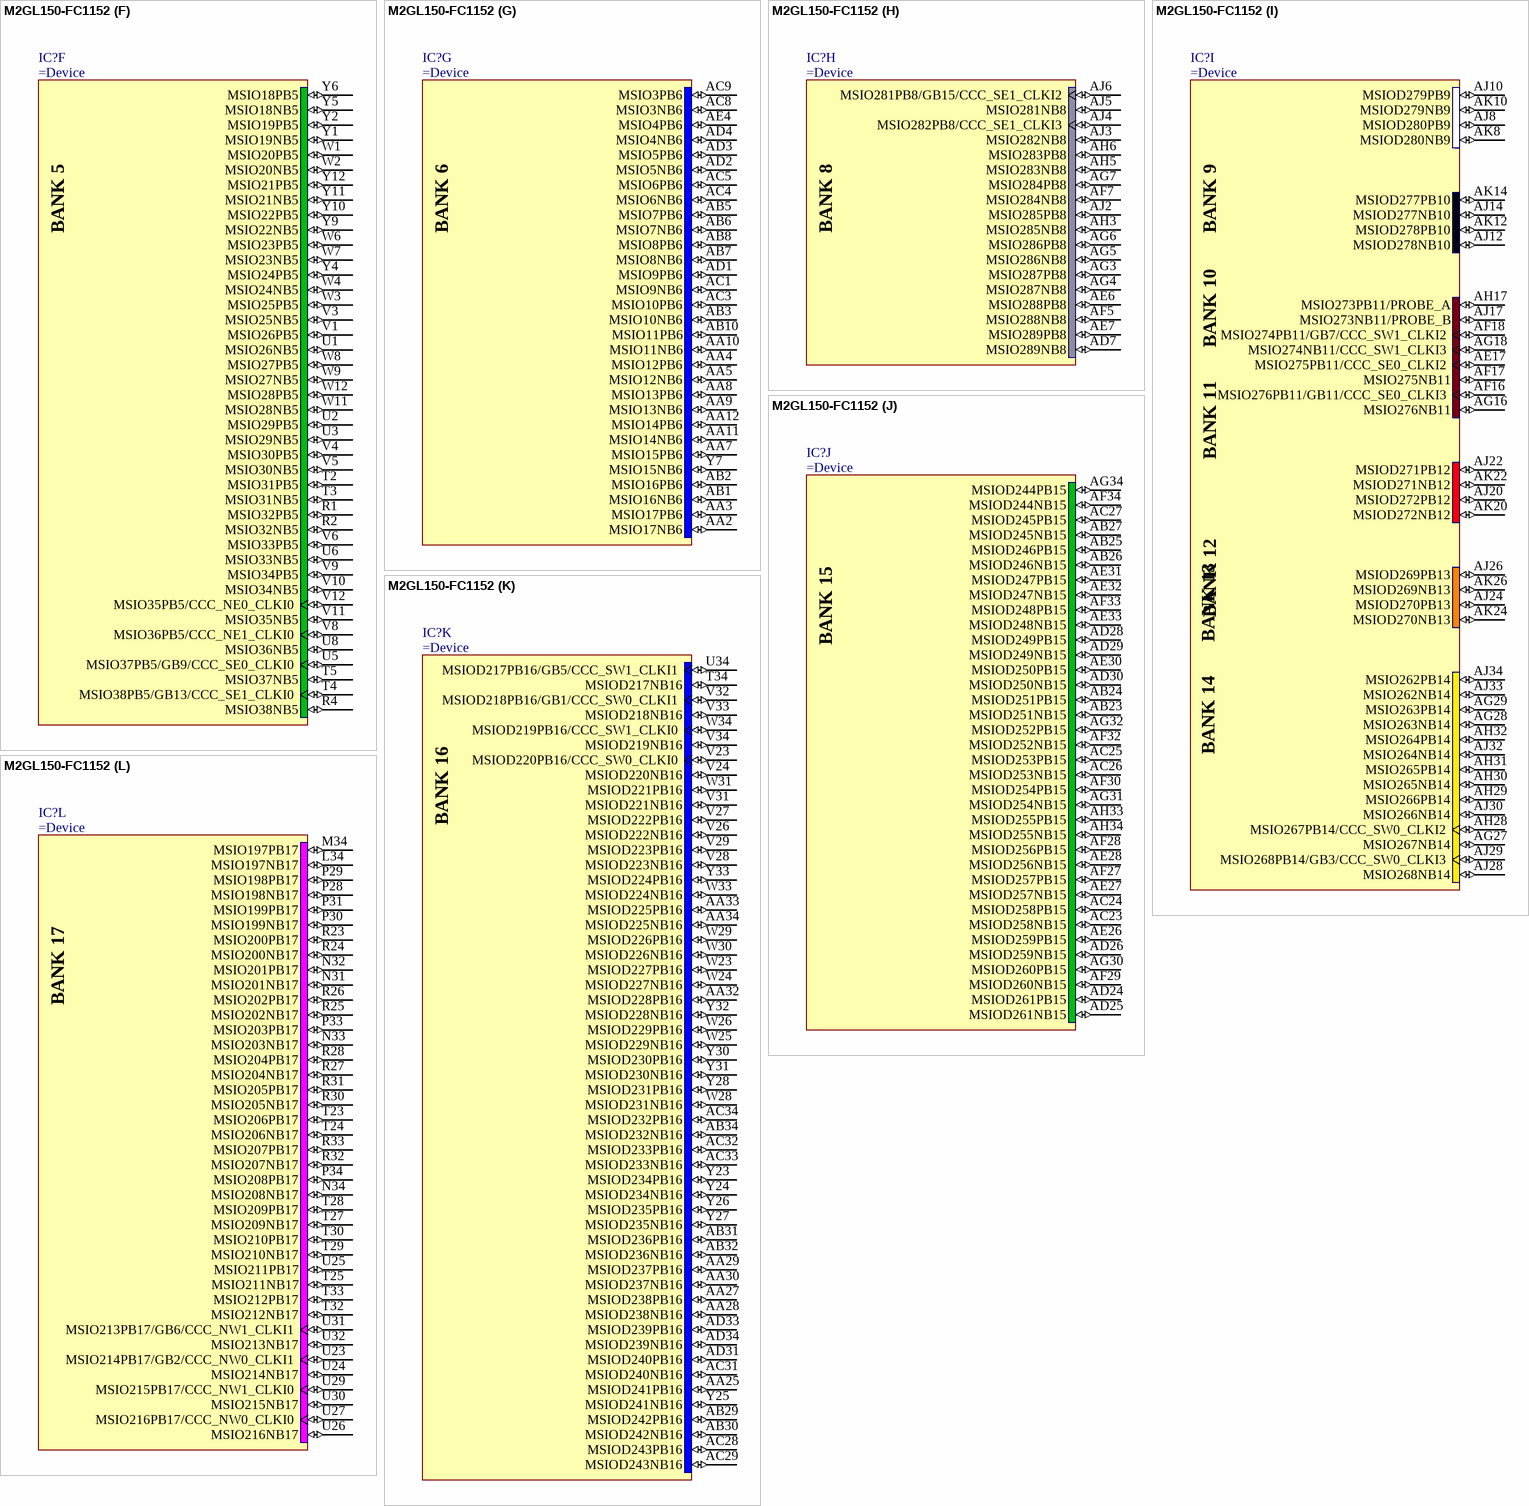
[diagram p85: symbol M2GL150-FC1152]

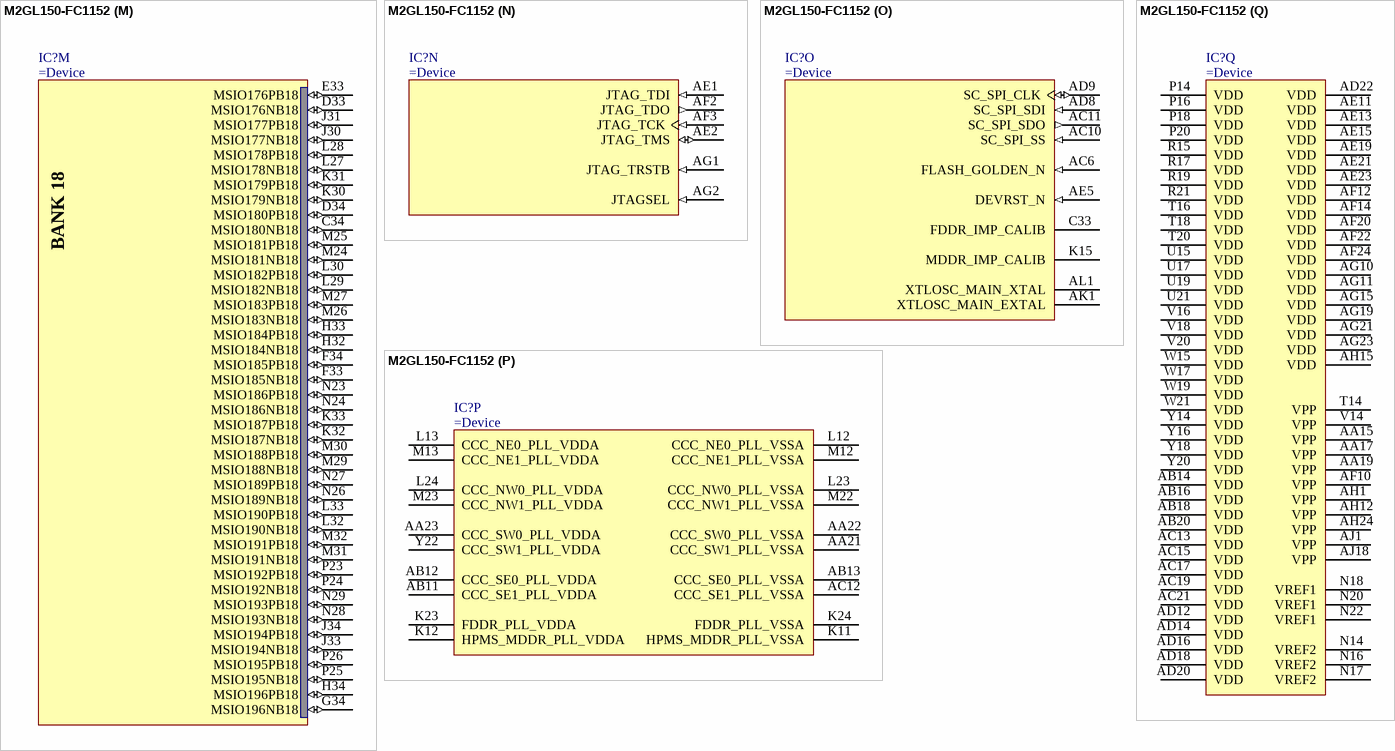
[diagram p86: symbol M2GL150-FC1152]

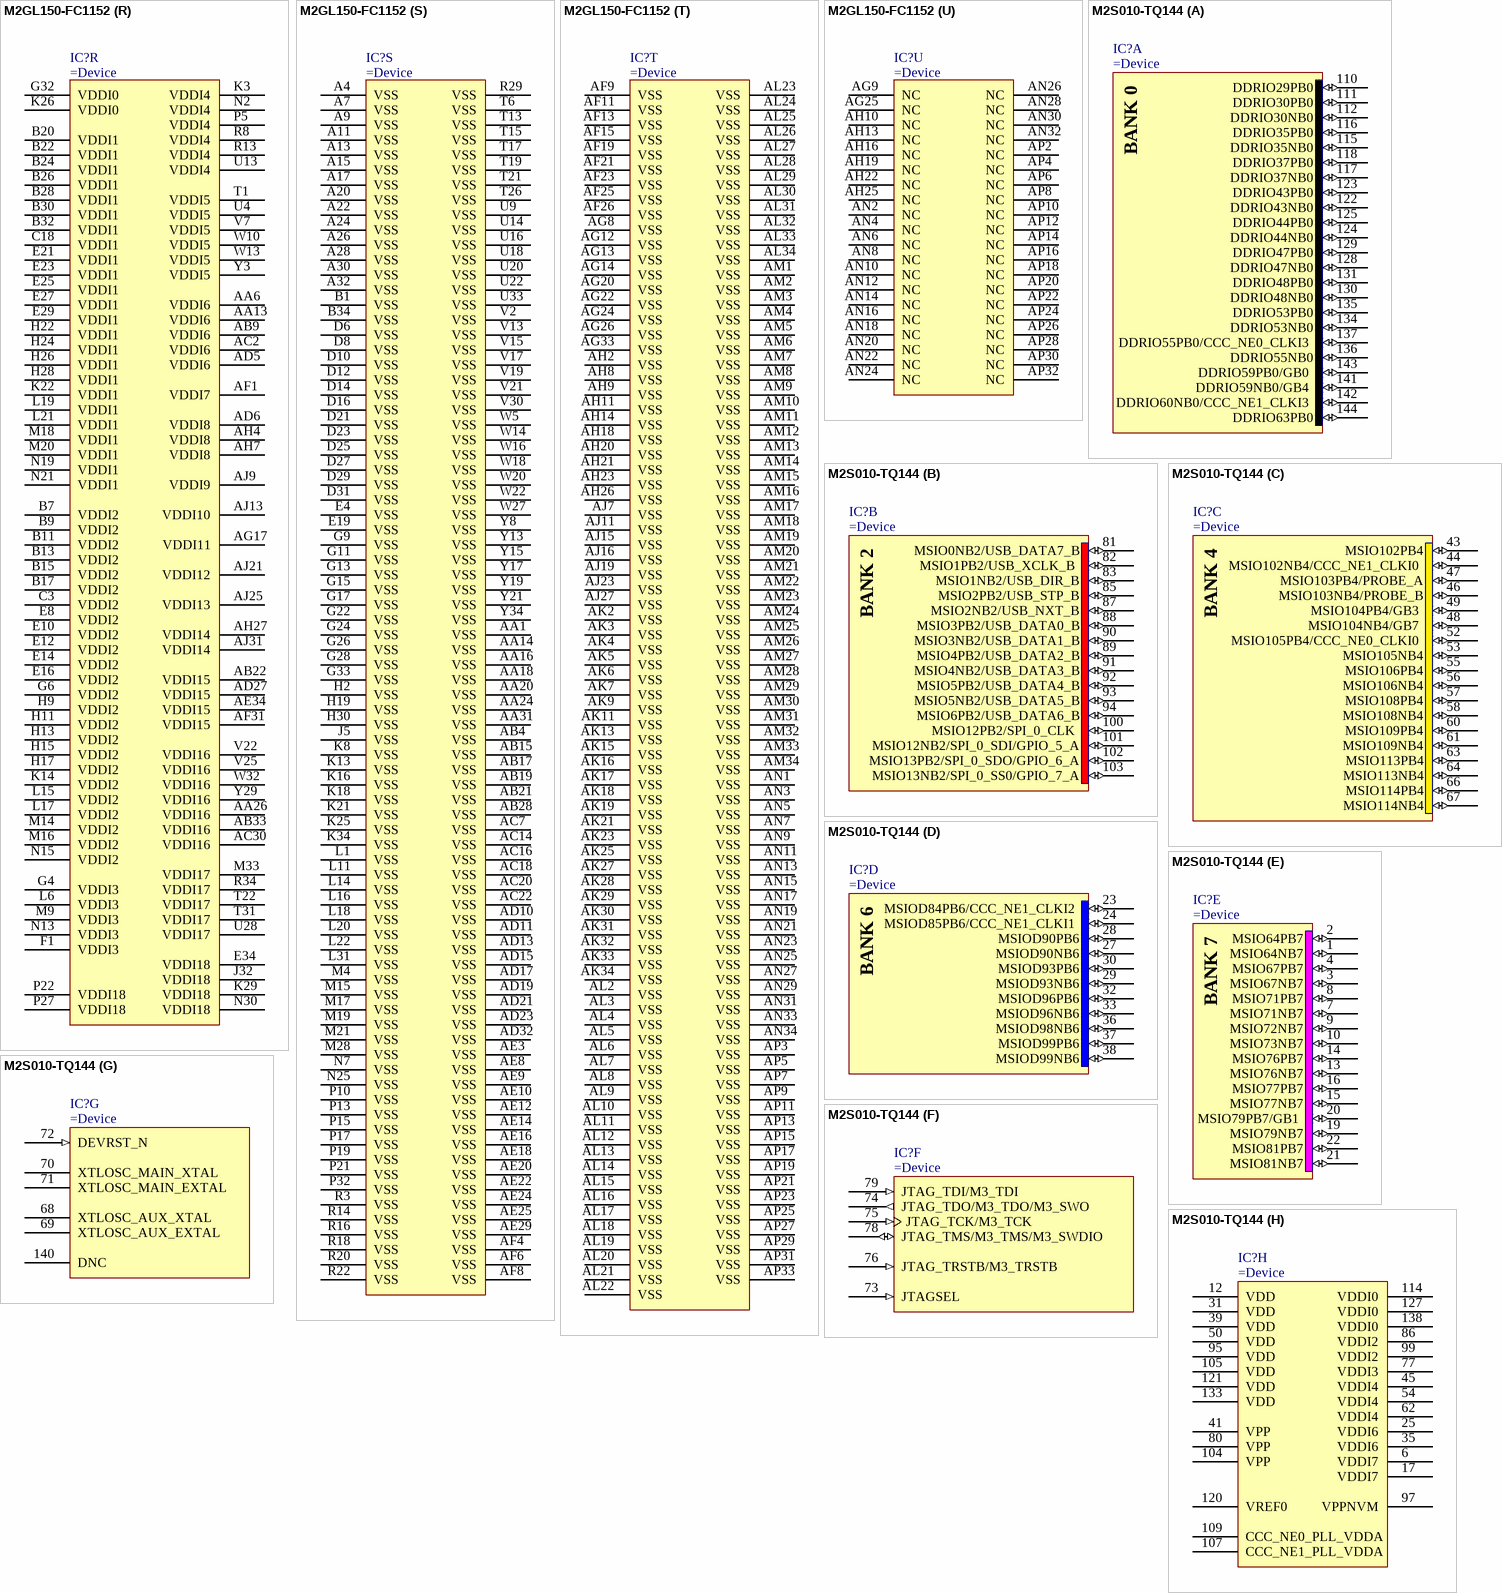
[diagram p87: symbols M2GL150-FC1152 to M2S010-TQ144]